# EAGLE library part LT1534 (library meng)
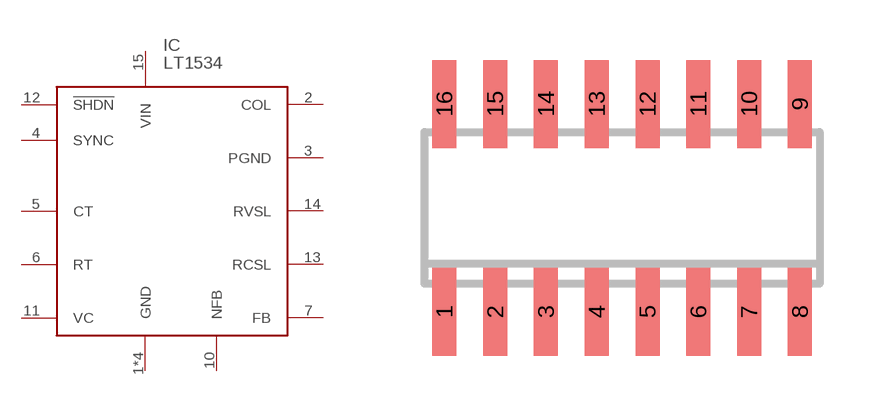
[diagram p7: symbol with the pads of SO16; footprint SO16]

Designator prefix IC

## LT1534 (VALUE: LT1534-1)  [SO16]
1  GND
2  COL
3  PGND
4  SYNC
5  CT
6  RT
7  FB
8  GND
9  GND
10  NFB
11  VC
12  !SHDN
13  RCSL
14  RVSL
15  VIN
16  GND

## Footprint SO16 (pad centres in mm)
SMALL OUTLINE INTEGRATED CIRCUIT body 3.9 mm/JEDEC MS-012AC
smd 0.6 x 2.2: 1 -4.445,-2.6; 2 -3.175,-2.6; 3 -1.905,-2.6; 4 -0.635,-2.6; 5 0.635,-2.6; 6 1.905,-2.6; 7 3.175,-2.6; 8 4.445,-2.6; 9 4.445,2.6; 10 3.175,2.6; 11 1.905,2.6; 12 0.635,2.6; 13 -0.635,2.6; 14 -1.905,2.6; 15 -3.175,2.6; 16 -4.445,2.6